# Altium footprint library Converters and Regulators.PcbLib: 10 footprints
Each footprint in its own frame and in the unit in brackets; x right, y up, seen from the top. Pads: shape width x height; smd on the part's side, far side on the other; paste and mask are expansions set on the pad; w line width, h text height; cw(c..) or ccw(c..) is an arc to the next point about the centre after c.
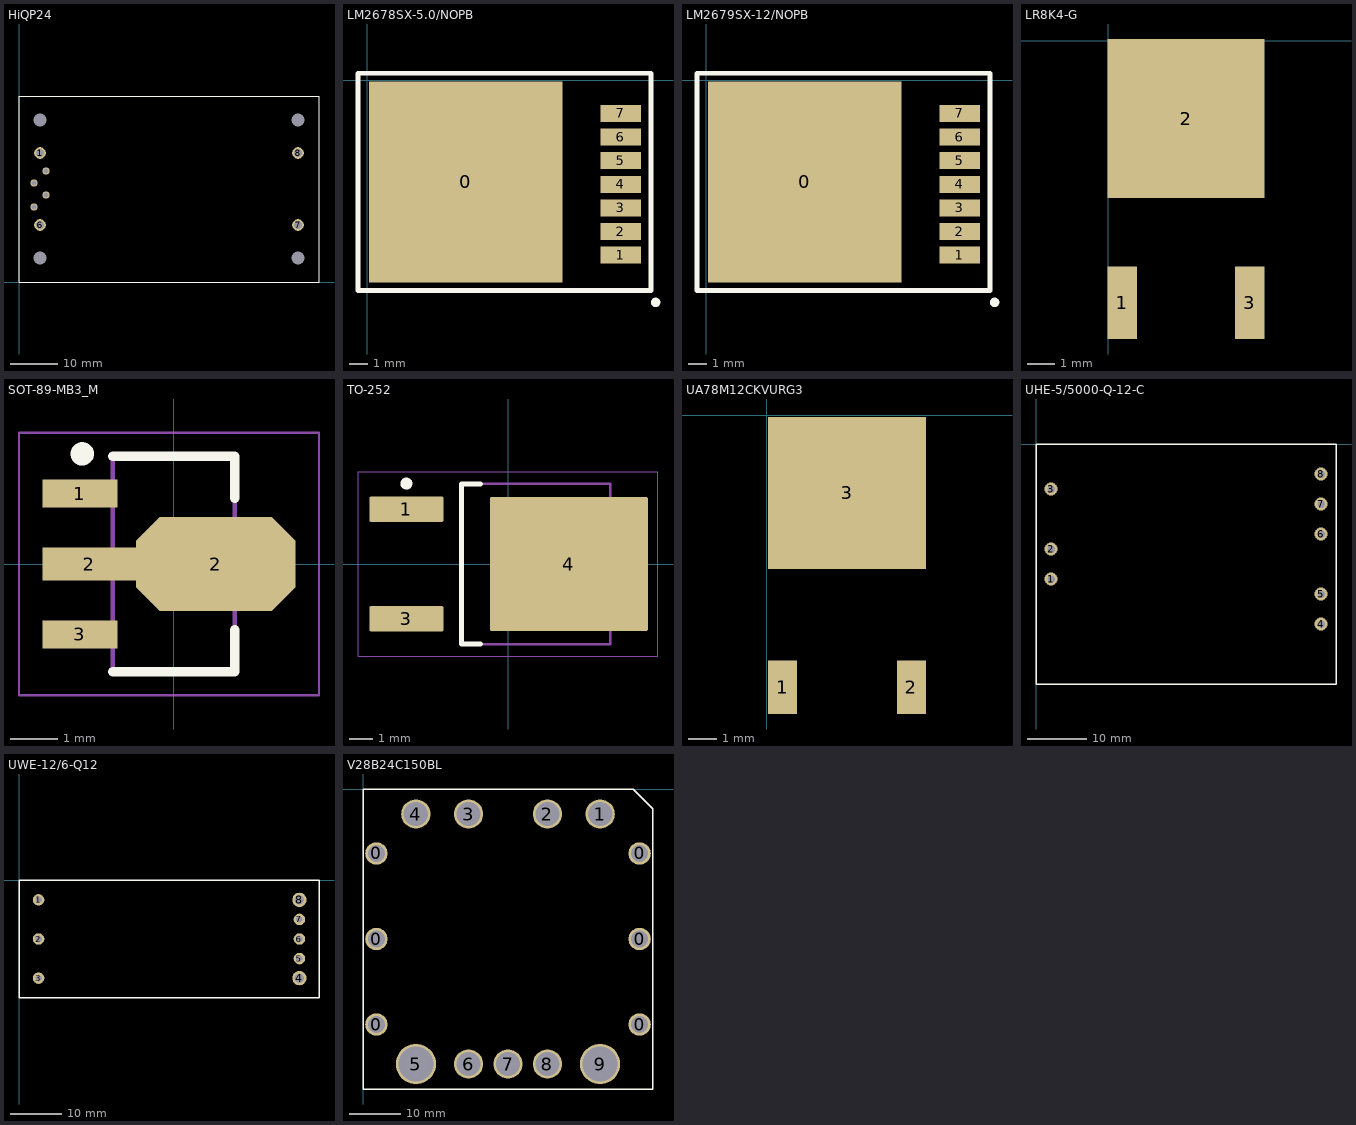
[diagram p0: the footprints below, top view; thin cyan lines are the x and y axes]

## HiQP24 [mm]
pads (12):
  round 1.524 hole 2.845: 0(4.445,5.08) 0(4.445,34.29) 0(59.055,5.08) 0(59.055,34.29)
  round 2.5 hole 1.65: 1(4.445,27.305) 6(4.445,12.065) 7(59.055,12.065) 8(59.055,27.305)
  round 1.524 hole 1.1: 2(5.715,23.495) 3(3.175,20.955) 4(5.715,18.415) 5(3.175,15.875)
Top Overlay:
  lines w0.254: 0,0 63.5,0 63.5,39.37 0,39.37 0,0
3D body: height 0, standoff -12.7, extent 0,0 63.5,39.37

## LM2678SX-5.0/NOPB [mil] "5V Switching Regulator, 5A"
pads (8):
  rect 410x425 smd: 0(208,-215)
  rect 85x36 smd: 1(536,-370) 2(536,-320) 3(536,-270) 4(536,-220) 5(536,-170) 6(536,-120) 7(536,-70)
Top Overlay:
  circle w10: c610,-470 r5
  lines w10: -20,-445 600,-445 600,15 -20,15 -20,-445
3D body: height 179.92, standoff 0, extent -19,-445 600,15

## LM2679SX-12/NOPB [mil] "12V Switching Regulator, 5A"
pads (8):
  rect 410x425 smd: 0(208,-215)
  rect 85x36 smd: 1(536,-370) 2(536,-320) 3(536,-270) 4(536,-220) 5(536,-170) 6(536,-120) 7(536,-70)
Top Overlay:
  circle w10: c610,-470 r5
  lines w10: -20,-445 600,-445 600,15 -20,15 -20,-445
3D body: height 179.92, standoff 0, extent -20,-445 600,15

## LR8K4-G [mil] "High Voltage Linear Regulator"
pads (3):
  rect 41.73x102.36 smd mask+2: 1(20,-370) 3(200,-370)
  rect 221.73x224.41 smd mask+2: 2(110,-110)

## SOT-89-MB3_M [mm] "SOT89, 3-Leads, Body 4.5x2.4 mm, Pitch 1.5mm, Lead Span 4.1mm, IPC Low Density"
height 1.6
pads (4):
  rect 1.6x0.6 smd: 1(-2,1.5) 3(-2,-1.5)
  rect 2x0.7 smd: 2(-1.8,0)
  oct 3.4x2 smd: 2(0.9,0)
Top Overlay:
  circle w0.25: c-1.95,2.35 r0.125
  lines w0.2: -1.3,-2.3 1.3,-2.3 1.3,-1.4 ; -1.3,2.3 1.3,2.3 1.3,1.4
Mechanical 13:
  lines w0.1: -1.3,-2.3 1.3,-2.3 1.3,2.3 -1.3,2.3 -1.3,-2.3
Mechanical 15:
  lines w0.05: -3.3,-2.8 3.1,-2.8 3.1,2.8 -3.3,2.8 -3.3,-2.8
  lines w0.1: -0.5,0 0.5,0 ; 0,-0.5 0,0.5
3D body: height 1.6, standoff 0, extent -1.3,-2.3 1.3,2.3

## TO-252 [mm] "DPAK, 3-Leads, Body 6.7x6.22mm, Pitch 2.29mm, IPC Low Density"
height 2.39
pads (3):
  rrect10% 3.1x1.05 smd: 1(-4.25,2.29) 3(-4.25,-2.29)
  rrect2% 6.6x5.6 smd: 4(2.55,0)
Top Overlay:
  circle w0.25: c-4.25,3.365 r0.125
  lines w0.2: -1.15,-3.35 -1.95,-3.35 -1.95,3.35 -1.15,3.35
Mechanical 1:
  text ".Designator" at -1.524,-0.508 h1.3
Mechanical 13:
  lines w0.1: -1.95,-3.35 -1.95,3.35 4.27,3.35 4.27,-3.35 -1.95,-3.35
Mechanical 15:
  lines w0.05: -6.275,-3.85 -6.275,3.85 6.275,3.85 6.275,-3.85 -6.275,-3.85
  lines w0.1: -0.5,0 0.5,0 ; 0,-0.5 0,0.5
3D body "td03b.stp": height 2.48, standoff 0.01, extent -4.631,-3.285 5.068,3.295

## UA78M12CKVURG3 [mil] "12V Regulator"
pads (3):
  rect 40x74 smd mask+2: 1(22,-375) 2(200,-375)
  rect 218x210 smd mask+2: 3(111,-107)

## UHE-5/5000-Q-12-C [mil] "5V DCDC"
height 400
pads (8):
  round 88 hole 50: 1(100,-900) 2(100,-700) 3(100,-300) 4(1900,-1200) 5(1900,-1000) 6(1900,-600) 7(1900,-400) 8(1900,-200)
Top Overlay:
  lines w10: 0,-1600 0,0 2000,0 2000,-1600 0,-1600
3D body: height 401.57, standoff 0, extent 0,-1600 2000,0

## UWE-12/6-Q12 [mil] "12V DCDC"
pads (8):
  round 88 hole 50: 1(150,-150) 2(150,-450) 3(150,-750) 5(2150,-600) 6(2150,-450) 7(2150,-300)
  round 110 hole 72: 4(2150,-750) 8(2150,-150)
Top Overlay:
  lines w10: 0,-900 0,0 2300,0 2300,-900 0,-900
3D body: height 503.94, standoff 0, extent 0,-900 2300,0

## V28B24C150BL [mil] "24V DCDC"
pads (15):
  round 170 hole 129: 0(100,-1790) 0(100,-1140) 0(100,-490) 0(2100,-1790) 0(2100,-1140) 0(2100,-490)
  round 223 hole 185: 1(1800,-190) 2(1400,-190) 3(800,-190) 4(400,-190) 6(800,-2090) 7(1100,-2090) 8(1400,-2090)
  round 306 hole 268: 5(400,-2090) 9(1800,-2090)
Top Overlay:
  lines w10: 0,-2280 0,0 2050,0 2200,-150 2200,-2280 0,-2280
3D body: height 547.24, standoff 0, extent 0,-2275 2200,0